# Altium schematic symbol library USB-B Connector XUNPU USB-B10-BRW.Schlib: 1 symbol
Pins are listed as number, name and electrical type; pins without a type are passive.

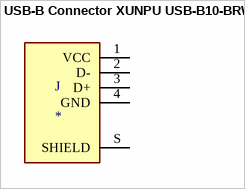
[diagram p0: symbol USB-B Connector XUNPU USB-B10-BRW]

## USB-B Connector XUNPU USB-B10-BRW
designator J
USB - Type B Female USB 2 4 Through Hole USB Connectors RoHS; ComponentLink1Description: LCSC - XUNPU USB-B10-BRW; ComponentLink1URL: https://lcsc.com/product-detail/USB-Connectors_XUNPU-USB-B10-BRW_C720549.html/?href=jlc-SMT; LCSC Part #: C720549
footprint USB-B TE Connectivity 292304-1
pins: 1 VCC, 2 D-, 3 D+, 4 GND, S SHIELD